# Altium integrated library Resistors.IntLib: 4954 symbols (part 28 of 32)
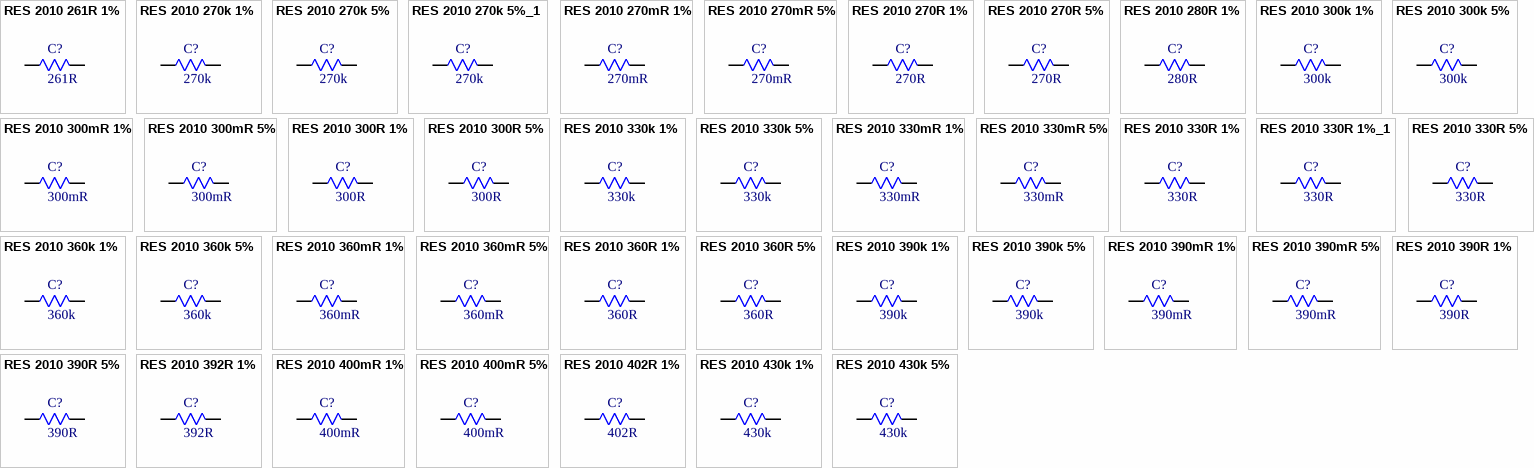
[diagram p150: symbols RES 2010 261R 1% to RES 2010 430k 5%]

## RES 2010 430k 5%
designator C?, comment 430k
430kR 5% 750mW 2010 Thick Film Resistor; Manufacturer: FOJAN; Manufacturer Part Number: FRC2010J434 TS; Voltage Rating: 200V; Supplier: LCSC; Supplier Part Number: C2934030; Resistance: 430k; Tolerance: 5%; Power: 750mW
footprint RES SMD 2010
pins: 1, 2

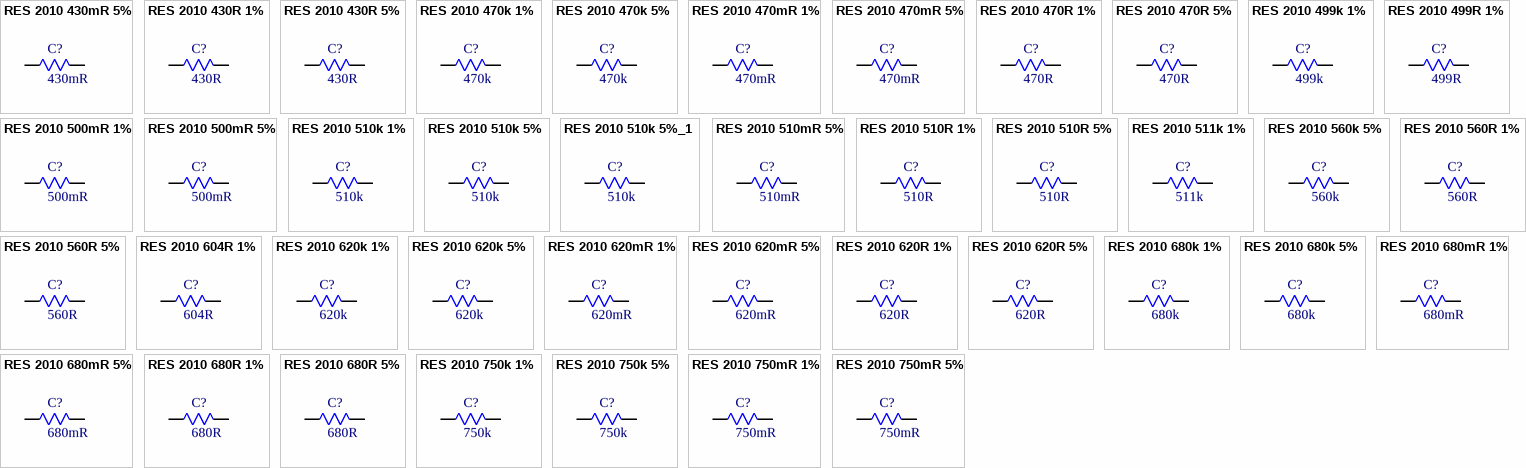
[diagram p108: symbols RES 2010 430mR 5% to RES 2010 750mR 5%]

## RES 2010 430mR 5%
designator C?, comment 430mR
430mR 5% 750mW 2010 Thick Film Resistor; Manufacturer: FOJAN; Manufacturer Part Number: FRL2010JR430TS; Voltage Rating: 500V; Supplier: LCSC; Supplier Part Number: C2934362; Resistance: 430mR; Tolerance: 5%; Power: 750mW
footprint RES SMD 2010
pins: 1, 2

## RES 2010 430R 1%
designator C?, comment 430R
430R 1% 750mW 2010 Thick Film Resistor; Manufacturer: FOJAN; Manufacturer Part Number: FRC2010F4300TS; Voltage Rating: 200V; Supplier: LCSC; Supplier Part Number: C2933988; Resistance: 430R; Tolerance: 1%; Power: 750mW
footprint RES SMD 2010
pins: 1, 2

## RES 2010 430R 5%
designator C?, comment 430R
430R 5% 750mW 2010 Thick Film Resistor; Manufacturer: FOJAN; Manufacturer Part Number: FRC2010J431 TS; Voltage Rating: 200V; Supplier: LCSC; Supplier Part Number: C2960757; Resistance: 430R; Tolerance: 5%; Power: 750mW
footprint RES SMD 2010
pins: 1, 2

## RES 2010 470k 1%
designator C?, comment 470k
470kR 1% 750mW 2010 Thick Film Resistor; Manufacturer: FOJAN; Manufacturer Part Number: FRC2010F4703TS; Voltage Rating: 200V; Supplier: LCSC; Supplier Part Number: C5159758; Resistance: 470k; Tolerance: 1%; Power: 750mW
footprint RES SMD 2010
pins: 1, 2

## RES 2010 470k 5%
designator C?, comment 470k
470kR 5% 750mW 2010 Thick Film Resistor; Manufacturer: FOJAN; Manufacturer Part Number: FRC2010J474 TS; Voltage Rating: 200V; Supplier: LCSC; Supplier Part Number: C2960931; Resistance: 470k; Tolerance: 5%; Power: 750mW
footprint RES SMD 2010
pins: 1, 2

## RES 2010 470mR 1%
designator C?, comment 470mR
470mR 1% 750mW 2010 Thick Film Resistor; Manufacturer: FOJAN; Manufacturer Part Number: FRL2010FR470TS; Voltage Rating: 500V; Supplier: LCSC; Supplier Part Number: C5126267; Resistance: 470mR; Tolerance: 1%; Power: 750mW
footprint RES SMD 2010
pins: 1, 2

## RES 2010 470mR 5%
designator C?, comment 470mR
470mR 5% 750mW 2010 Thick Film Resistor; Manufacturer: FOJAN; Manufacturer Part Number: FRL2010JR470TS; Voltage Rating: 500V; Supplier: LCSC; Supplier Part Number: C2934363; Resistance: 470mR; Tolerance: 5%; Power: 750mW
footprint RES SMD 2010
pins: 1, 2

## RES 2010 470R 1%
designator C?, comment 470R
470R 1% 750mW 2010 Thick Film Resistor; Manufacturer: FOJAN; Manufacturer Part Number: FRC2010F4700TS; Voltage Rating: 200V; Supplier: LCSC; Supplier Part Number: C2933989; Resistance: 470R; Tolerance: 1%; Power: 750mW
footprint RES SMD 2010
pins: 1, 2

## RES 2010 470R 5%
designator C?, comment 470R
470R 5% 750mW 2010 Thick Film Resistor; Manufacturer: FOJAN; Manufacturer Part Number: FRC2010J471 TS; Voltage Rating: 200V; Supplier: LCSC; Supplier Part Number: C2960680; Resistance: 470R; Tolerance: 5%; Power: 750mW
footprint RES SMD 2010
pins: 1, 2

## RES 2010 499k 1%
designator C?, comment 499k
499kR 1% 750mW 2010 Thick Film Resistor; Manufacturer: FOJAN; Manufacturer Part Number: FRC2010F4993TS; Voltage Rating: 200V; Supplier: LCSC; Supplier Part Number: C5713370; Resistance: 499k; Tolerance: 1%; Power: 750mW
footprint RES SMD 2010
pins: 1, 2

## RES 2010 499R 1%
designator C?, comment 499R
499R 1% 750mW 2010 Thick Film Resistor; Manufacturer: FOJAN; Manufacturer Part Number: FRC2010F4990TS; Voltage Rating: 200V; Supplier: LCSC; Supplier Part Number: C3000554; Resistance: 499R; Tolerance: 1%; Power: 750mW
footprint RES SMD 2010
pins: 1, 2

## RES 2010 500mR 1%
designator C?, comment 500mR
500mR 1% 750mW 2010 Thick Film Resistor; Manufacturer: FOJAN; Manufacturer Part Number: FRL2010FR500TS; Voltage Rating: 500V; Supplier: LCSC; Supplier Part Number: C2974126; Resistance: 500mR; Tolerance: 1%; Power: 750mW
footprint RES SMD 2010
pins: 1, 2

## RES 2010 500mR 5%
designator C?, comment 500mR
500mR 5% 750mW 2010 Thick Film Resistor; Manufacturer: FOJAN; Manufacturer Part Number: FRL2010JR500TS; Voltage Rating: 500V; Supplier: LCSC; Supplier Part Number: C3000709; Resistance: 500mR; Tolerance: 5%; Power: 750mW
footprint RES SMD 2010
pins: 1, 2

## RES 2010 510k 1%
designator C?, comment 510k
510kR 1% 750mW 2010 Thick Film Resistor; Manufacturer: FOJAN; Manufacturer Part Number: FRC2010F5103TS; Voltage Rating: 200V; Supplier: LCSC; Supplier Part Number: C3013310; Resistance: 510k; Tolerance: 1%; Power: 750mW
footprint RES SMD 2010
pins: 1, 2

## RES 2010 510k 5%
designator C?, comment 510k
510kR 5% 1W 2010 Thick Film Resistor; Manufacturer: FOJAN; Manufacturer Part Number: FRP2010J514 TS; Voltage Rating: 200V; Supplier: LCSC; Supplier Part Number: C3013380; Resistance: 510k; Tolerance: 5%; Power: 1W
footprint RES SMD 2010
pins: 1, 2

## RES 2010 510k 5%_1
designator C?, comment 510k
510kR 5% 750mW 2010 Thick Film Resistor; Manufacturer: FOJAN; Manufacturer Part Number: FRC2010J514 TS; Voltage Rating: 200V; Supplier: LCSC; Supplier Part Number: C2934034; Resistance: 510k; Tolerance: 5%; Power: 750mW
footprint RES SMD 2010
pins: 1, 2

## RES 2010 510mR 5%
designator C?, comment 510mR
510mR 5% 750mW 2010 Thick Film Resistor; Manufacturer: FOJAN; Manufacturer Part Number: FRL2010JR510TS; Voltage Rating: 500V; Supplier: LCSC; Supplier Part Number: C3000792; Resistance: 510mR; Tolerance: 5%; Power: 750mW
footprint RES SMD 2010
pins: 1, 2

## RES 2010 510R 1%
designator C?, comment 510R
510R 1% 750mW 2010 Thick Film Resistor; Manufacturer: FOJAN; Manufacturer Part Number: FRC2010F5100TS; Voltage Rating: 200V; Supplier: LCSC; Supplier Part Number: C3013309; Resistance: 510R; Tolerance: 1%; Power: 750mW
footprint RES SMD 2010
pins: 1, 2

## RES 2010 510R 5%
designator C?, comment 510R
510R 5% 750mW 2010 Thick Film Resistor; Manufacturer: FOJAN; Manufacturer Part Number: FRC2010J511TS; Voltage Rating: 200V; Supplier: LCSC; Supplier Part Number: C2980182; Resistance: 510R; Tolerance: 5%; Power: 750mW
footprint RES SMD 2010
pins: 1, 2

## RES 2010 511k 1%
designator C?, comment 511k
511kR Thick Film Resistor 1% 2010 Chip Resistor - Surface Mount RoHS; Manufacturer: FOJAN; Manufacturer Part Number: FRC2010F5113TS; Supplier: LCSC; Supplier Part Number: C49010134; Resistance: 511k; Tolerance: 1%
footprint RES SMD 2010
pins: 1, 2

## RES 2010 560k 5%
designator C?, comment 560k
560kR 5% 750mW 2010 Thick Film Resistor; Manufacturer: FOJAN; Manufacturer Part Number: FRC2010J564 TS; Voltage Rating: 200V; Supplier: LCSC; Supplier Part Number: C2934035; Resistance: 560k; Tolerance: 5%; Power: 750mW
footprint RES SMD 2010
pins: 1, 2

## RES 2010 560R 1%
designator C?, comment 560R
560R 1% 750mW 2010 Thick Film Resistor; Manufacturer: FOJAN; Manufacturer Part Number: FRC2010F5600TS; Voltage Rating: 200V; Supplier: LCSC; Supplier Part Number: C42372194; Resistance: 560R; Tolerance: 1%; Power: 750mW
footprint RES SMD 2010
pins: 1, 2

## RES 2010 560R 5%
designator C?, comment 560R
560R 5% 750mW 2010 Thick Film Resistor; Manufacturer: FOJAN; Manufacturer Part Number: FRC2010J561TS; Voltage Rating: 200V; Supplier: LCSC; Supplier Part Number: C3000789; Resistance: 560R; Tolerance: 5%; Power: 750mW
footprint RES SMD 2010
pins: 1, 2

## RES 2010 604R 1%
designator C?, comment 604R
750mW 604R 200V Thick Film Resistor 100ppm/â„ƒ 1% 2010 Chip Resistor - Surface Mount RoHS; Manufacturer: FOJAN; Manufacturer Part Number: FRC2010F6040TS; Supplier: LCSC; Supplier Part Number: C49010122; Resistance: 604R; Tolerance: 1%; Voltage Rating: 200V; Power: 750mW
footprint RES SMD 2010
pins: 1, 2

## RES 2010 620k 1%
designator C?, comment 620k
620kR 1% 750mW 2010 Thick Film Resistor; Manufacturer: FOJAN; Manufacturer Part Number: FRC2010F6203TS; Voltage Rating: 200V; Supplier: LCSC; Supplier Part Number: C2930456; Resistance: 620k; Tolerance: 1%; Power: 750mW
footprint RES SMD 2010
pins: 1, 2

## RES 2010 620k 5%
designator C?, comment 620k
620kR 5% 750mW 2010 Thick Film Resistor; Manufacturer: FOJAN; Manufacturer Part Number: FRC2010J624 TS; Voltage Rating: 200V; Supplier: LCSC; Supplier Part Number: C5126251; Resistance: 620k; Tolerance: 5%; Power: 750mW
footprint RES SMD 2010
pins: 1, 2

## RES 2010 620mR 1%
designator C?, comment 620mR
620mR 1% 750mW 2010 Thick Film Resistor; Manufacturer: FOJAN; Manufacturer Part Number: FRL2010FR620TS; Voltage Rating: 500V; Supplier: LCSC; Supplier Part Number: C5713407; Resistance: 620mR; Tolerance: 1%; Power: 750mW
footprint RES SMD 2010
pins: 1, 2

## RES 2010 620mR 5%
designator C?, comment 620mR
620mR 5% 750mW 2010 Thick Film Resistor; Manufacturer: FOJAN; Manufacturer Part Number: FRL2010JR620TS; Voltage Rating: 500V; Supplier: LCSC; Supplier Part Number: C2960852; Resistance: 620mR; Tolerance: 5%; Power: 750mW
footprint RES SMD 2010
pins: 1, 2

## RES 2010 620R 1%
designator C?, comment 620R
750mW 620R 200V Thick Film Resistor 1% 2010 Chip Resistor - Surface Mount RoHS; Manufacturer: FOJAN; Manufacturer Part Number: FRC2010F6200TS; Supplier: LCSC; Supplier Part Number: C51048353; Resistance: 620R; Tolerance: 1%; Voltage Rating: 200V; Power: 750mW
footprint RES SMD 2010
pins: 1, 2

## RES 2010 620R 5%
designator C?, comment 620R
620R 5% 750mW 2010 Thick Film Resistor; Manufacturer: FOJAN; Manufacturer Part Number: FRC2010J621TS; Voltage Rating: 200V; Supplier: LCSC; Supplier Part Number: C3000621; Resistance: 620R; Tolerance: 5%; Power: 750mW
footprint RES SMD 2010
pins: 1, 2

## RES 2010 680k 1%
designator C?, comment 680k
750mW 680kR 200V Thick Film Resistor 100ppm/â„ƒ 1% 2010 Chip Resistor - Surface Mount RoHS; Manufacturer: FOJAN; Manufacturer Part Number: FRC2010F6803TS; Supplier: LCSC; Supplier Part Number: C22375114; Resistance: 680k; Tolerance: 1%; Voltage Rating: 200V; Power: 750mW
footprint RES SMD 2010
pins: 1, 2

## RES 2010 680k 5%
designator C?, comment 680k
680kR 5% 750mW 2010 Thick Film Resistor; Manufacturer: FOJAN; Manufacturer Part Number: FRC2010J684TS; Voltage Rating: 200V; Supplier: LCSC; Supplier Part Number: C5379856; Resistance: 680k; Tolerance: 5%; Power: 750mW
footprint RES SMD 2010
pins: 1, 2

## RES 2010 680mR 1%
designator C?, comment 680mR
680mR 1% 750mW 2010 Thick Film Resistor; Manufacturer: FOJAN; Manufacturer Part Number: FRL2010FR680TS; Voltage Rating: 500V; Supplier: LCSC; Supplier Part Number: C2934355; Resistance: 680mR; Tolerance: 1%; Power: 750mW
footprint RES SMD 2010
pins: 1, 2

## RES 2010 680mR 5%
designator C?, comment 680mR
680mR 5% 750mW 2010 Thick Film Resistor; Manufacturer: FOJAN; Manufacturer Part Number: FRL2010JR680TS; Voltage Rating: 500V; Supplier: LCSC; Supplier Part Number: C3000628; Resistance: 680mR; Tolerance: 5%; Power: 750mW
footprint RES SMD 2010
pins: 1, 2

## RES 2010 680R 1%
designator C?, comment 680R
680R 1% 750mW 2010 Thick Film Resistor; Manufacturer: FOJAN; Manufacturer Part Number: FRC2010F6800TS; Voltage Rating: 200V; Supplier: LCSC; Supplier Part Number: C2999597; Resistance: 680R; Tolerance: 1%; Power: 750mW
footprint RES SMD 2010
pins: 1, 2

## RES 2010 680R 5%
designator C?, comment 680R
680R 5% 750mW 2010 Thick Film Resistor; Manufacturer: FOJAN; Manufacturer Part Number: FRC2010J681 TS; Voltage Rating: 200V; Supplier: LCSC; Supplier Part Number: C2934037; Resistance: 680R; Tolerance: 5%; Power: 750mW
footprint RES SMD 2010
pins: 1, 2

## RES 2010 750k 1%
designator C?, comment 750k
750kR 750mW 200V Thick Film Resistor 1% 2010 Chip Resistor - Surface Mount RoHS; Manufacturer: FOJAN; Manufacturer Part Number: FRC2010F7503TS; Supplier: LCSC; Supplier Part Number: C51048210; Resistance: 750k; Tolerance: 1%; Voltage Rating: 200V; Power: 750mW
footprint RES SMD 2010
pins: 1, 2

## RES 2010 750k 5%
designator C?, comment 750k
750kR 5% 750mW 2010 Thick Film Resistor; Manufacturer: FOJAN; Manufacturer Part Number: FRC2010J754TS; Voltage Rating: 200V; Supplier: LCSC; Supplier Part Number: C3000656; Resistance: 750k; Tolerance: 5%; Power: 750mW
footprint RES SMD 2010
pins: 1, 2

## RES 2010 750mR 1%
designator C?, comment 750mR
750mR 1% 750mW 2010 Thick Film Resistor; Manufacturer: FOJAN; Manufacturer Part Number: FRL2010FR750TS; Voltage Rating: 500V; Supplier: LCSC; Supplier Part Number: C5126191; Resistance: 750mR; Tolerance: 1%; Power: 750mW
footprint RES SMD 2010
pins: 1, 2

## RES 2010 750mR 5%
designator C?, comment 750mR
750mR 5% 750mW 2010 Thick Film Resistor; Manufacturer: FOJAN; Manufacturer Part Number: FRL2010JR750TS; Voltage Rating: 500V; Supplier: LCSC; Supplier Part Number: C3013368; Resistance: 750mR; Tolerance: 5%; Power: 750mW
footprint RES SMD 2010
pins: 1, 2

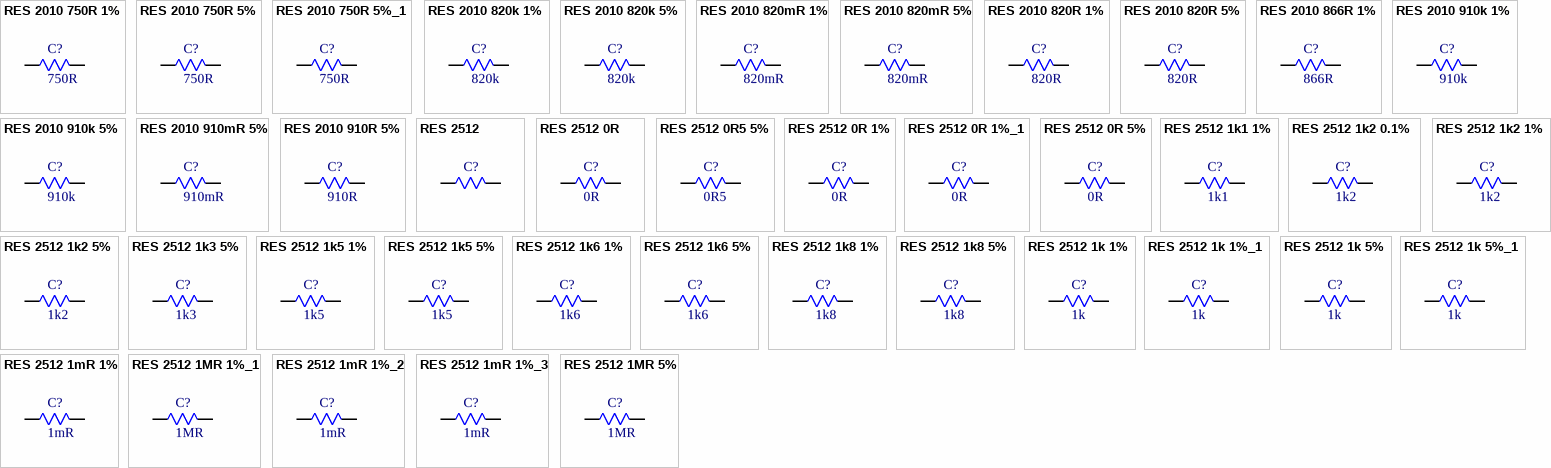
[diagram p109: symbols RES 2010 750R 1% to RES 2512 1MR 5%]

## RES 2010 750R 1%
designator C?, comment 750R
750R 1% 750mW 2010 Thick Film Resistor; Manufacturer: FOJAN; Manufacturer Part Number: FRC2010F7500TS; Voltage Rating: 200V; Supplier: LCSC; Supplier Part Number: C5126119; Resistance: 750R; Tolerance: 1%; Power: 750mW
footprint RES SMD 2010
pins: 1, 2

## RES 2010 750R 5%
designator C?, comment 750R
1W 750R Thick Film Resistor 5% 200ppm/â„ƒ 2010 Chip Resistor - Surface Mount RoHS; Manufacturer: FOJAN; Manufacturer Part Number: FRP2010J751 TS; Supplier: LCSC; Supplier Part Number: C22375108; Resistance: 750R; Tolerance: 5%; Power: 1W
footprint RES SMD 2010
pins: 1, 2

## RES 2010 750R 5%_1
designator C?, comment 750R
750R 5% 750mW 2010 Thick Film Resistor; Manufacturer: FOJAN; Manufacturer Part Number: FRC2010J751TS; Voltage Rating: 200V; Supplier: LCSC; Supplier Part Number: C3000708; Resistance: 750R; Tolerance: 5%; Power: 750mW
footprint RES SMD 2010
pins: 1, 2

## RES 2010 820k 1%
designator C?, comment 820k
820kR 1% 750mW 2010 Thick Film Resistor; Manufacturer: FOJAN; Manufacturer Part Number: FRC2010F8203TS; Voltage Rating: 200V; Supplier: LCSC; Supplier Part Number: C2999619; Resistance: 820k; Tolerance: 1%; Power: 750mW
footprint RES SMD 2010
pins: 1, 2

## RES 2010 820k 5%
designator C?, comment 820k
820kR 5% 750mW 2010 Thick Film Resistor; Manufacturer: FOJAN; Manufacturer Part Number: FRC2010J824TS; Voltage Rating: 200V; Supplier: LCSC; Supplier Part Number: C3000681; Resistance: 820k; Tolerance: 5%; Power: 750mW
footprint RES SMD 2010
pins: 1, 2

## RES 2010 820mR 1%
designator C?, comment 820mR
820mR 1% 750mW 2010 Thick Film Resistor; Manufacturer: FOJAN; Manufacturer Part Number: FRL2010FR820TS; Voltage Rating: 500V; Supplier: LCSC; Supplier Part Number: C2974127; Resistance: 820mR; Tolerance: 1%; Power: 750mW
footprint RES SMD 2010
pins: 1, 2

## RES 2010 820mR 5%
designator C?, comment 820mR
820mR 5% 750mW 2010 Thick Film Resistor; Manufacturer: FOJAN; Manufacturer Part Number: FRL2010JR820TS; Voltage Rating: 500V; Supplier: LCSC; Supplier Part Number: C2930457; Resistance: 820mR; Tolerance: 5%; Power: 750mW
footprint RES SMD 2010
pins: 1, 2

## RES 2010 820R 1%
designator C?, comment 820R
820R 750mW 200V Thick Film Resistor 100ppm/â„ƒ 1% 2010 Chip Resistor - Surface Mount RoHS; Manufacturer: FOJAN; Manufacturer Part Number: FRC2010F8200TS; Supplier: LCSC; Supplier Part Number: C48533694; Resistance: 820R; Tolerance: 1%; Voltage Rating: 200V; Power: 750mW
footprint RES SMD 2010
pins: 1, 2

## RES 2010 820R 5%
designator C?, comment 820R
820R 5% 750mW 2010 Thick Film Resistor; Manufacturer: FOJAN; Manufacturer Part Number: FRC2010J821 TS; Voltage Rating: 200V; Supplier: LCSC; Supplier Part Number: C2960912; Resistance: 820R; Tolerance: 5%; Power: 750mW
footprint RES SMD 2010
pins: 1, 2

## RES 2010 866R 1%
designator C?, comment 866R
866R 750mW 200V Thick Film Resistor 1% 2010 Chip Resistor - Surface Mount RoHS; Manufacturer: FOJAN; Manufacturer Part Number: FRC2010F8660TS; Supplier: LCSC; Supplier Part Number: C51048284; Resistance: 866R; Tolerance: 1%; Voltage Rating: 200V; Power: 750mW
footprint RES SMD 2010
pins: 1, 2

## RES 2010 910k 1%
designator C?, comment 910k
910kR 1% 750mW 2010 Thick Film Resistor; Manufacturer: FOJAN; Manufacturer Part Number: FRC2010F9103TS; Voltage Rating: 200V; Supplier: LCSC; Supplier Part Number: C5159759; Resistance: 910k; Tolerance: 1%; Power: 750mW
footprint RES SMD 2010
pins: 1, 2

## RES 2010 910k 5%
designator C?, comment 910k
910kR 5% 750mW 2010 Thick Film Resistor; Manufacturer: FOJAN; Manufacturer Part Number: FRC2010J914 TS; Voltage Rating: 200V; Supplier: LCSC; Supplier Part Number: C5713374; Resistance: 910k; Tolerance: 5%; Power: 750mW
footprint RES SMD 2010
pins: 1, 2

## RES 2010 910mR 5%
designator C?, comment 910mR
910mR 5% 750mW 2010 Thick Film Resistor; Manufacturer: FOJAN; Manufacturer Part Number: FRL2010JR910TS; Voltage Rating: 500V; Supplier: LCSC; Supplier Part Number: C3013369; Resistance: 910mR; Tolerance: 5%; Power: 750mW
footprint RES SMD 2010
pins: 1, 2

## RES 2010 910R 5%
designator C?, comment 910R
910R 5% 750mW 2010 Thick Film Resistor; Manufacturer: FOJAN; Manufacturer Part Number: FRC2010J911 TS; Voltage Rating: 200V; Supplier: LCSC; Supplier Part Number: C2960932; Resistance: 910R; Tolerance: 5%; Power: 750mW
footprint RES SMD 2010
pins: 1, 2

## RES 2512
designator C?
2512 Chip Resistor - Surface Mount RoHS; Manufacturer: FOJAN; Manufacturer Part Number: FRM252WFR022TM; Supplier: LCSC; Supplier Part Number: C53064366
footprint RES SMD 2512
pins: 1, 2

## RES 2512 0R
designator C?, comment 0R
0R 2W Thick Film Resistor 200ppm/â„ƒ 2512 Chip Resistor - Surface Mount RoHS; Manufacturer: FOJAN; Manufacturer Part Number: FRP2512P000 TS; Supplier: LCSC; Supplier Part Number: C7468130; Resistance: 0R; Power: 2W
footprint RES SMD 2512
pins: 1, 2

## RES 2512 0R5 5%
designator C?, comment 0R5
0.5mR 3W Current Sense Resistor 50ppm/â„ƒ 5% 2512 Chip Resistor - Surface Mount RoHS; Manufacturer: FOJAN; Manufacturer Part Number: FPM253WJR0005TML; Supplier: LCSC; Supplier Part Number: C7419994; Resistance: 0R5; Tolerance: 5%; Power: 3W
footprint RES SMD 2512
pins: 1, 2

## RES 2512 0R 1%
designator C?, comment 0R
2W 0R 200V Thick Film Resistor 200ppm/â„ƒ 1% 2512 Chip Resistor - Surface Mount RoHS; Manufacturer: FOJAN; Manufacturer Part Number: FRP2512F0000TS; Supplier: LCSC; Supplier Part Number: C5204052; Resistance: 0R; Tolerance: 1%; Voltage Rating: 200V; Power: 2W
footprint RES SMD 2512
pins: 1, 2

## RES 2512 0R 1%_1
designator C?, comment 0R
1W 0R 200V Thick Film Resistor 1% 2512 Chip Resistor - Surface Mount RoHS; Manufacturer: FOJAN; Manufacturer Part Number: FRC2512F0000TS; Supplier: LCSC; Supplier Part Number: C2934043; Resistance: 0R; Tolerance: 1%; Voltage Rating: 200V; Power: 1W
footprint RES SMD 2512
pins: 1, 2

## RES 2512 0R 5%
designator C?, comment 0R
1W 0R 200V Thick Film Resistor 5% 2512 Chip Resistor - Surface Mount RoHS; Manufacturer: FOJAN; Manufacturer Part Number: FRC2512P000 TS; Supplier: LCSC; Supplier Part Number: C2907567; Resistance: 0R; Tolerance: 5%; Voltage Rating: 200V; Power: 1W
footprint RES SMD 2512
pins: 1, 2

## RES 2512 1k1 1%
designator C?, comment 1k1
1.1kR 1% 1W 2512 Thick Film Resistor; Manufacturer: FOJAN; Manufacturer Part Number: FRC2512F1101TS; Voltage Rating: 200V; Supplier: LCSC; Supplier Part Number: C2974106; Resistance: 1k1; Tolerance: 1%; Power: 1W
footprint RES SMD 2512
pins: 1, 2

## RES 2512 1k2 0.1%
designator C?, comment 1k2
1W 1.2kR 200V Thick Film Resistor 100ppm/â„ƒ 0.1% 2512 Chip Resistor - Surface Mount RoHS; Manufacturer: FOJAN; Manufacturer Part Number: FRH2512B1201TS; Supplier: LCSC; Supplier Part Number: C49196923; Resistance: 1k2; Tolerance: 0.1%; Voltage Rating: 200V; Power: 1W
footprint RES SMD 2512
pins: 1, 2

## RES 2512 1k2 1%
designator C?, comment 1k2
1.2kR 1% 1W 2512 Thick Film Resistor; Manufacturer: FOJAN; Manufacturer Part Number: FRC2512F1201TS; Voltage Rating: 200V; Supplier: LCSC; Supplier Part Number: C2999600; Resistance: 1k2; Tolerance: 1%; Power: 1W
footprint RES SMD 2512
pins: 1, 2

## RES 2512 1k2 5%
designator C?, comment 1k2
1.2kR 5% 1W 2512 Thick Film Resistor; Manufacturer: FOJAN; Manufacturer Part Number: FRC2512J122 TS; Voltage Rating: 200V; Supplier: LCSC; Supplier Part Number: C2934085; Resistance: 1k2; Tolerance: 5%; Power: 1W
footprint RES SMD 2512
pins: 1, 2

## RES 2512 1k3 5%
designator C?, comment 1k3
1.3kR 5% 1W 2512 Thick Film Resistor; Manufacturer: FOJAN; Manufacturer Part Number: FRC2512J132 TS; Voltage Rating: 200V; Supplier: LCSC; Supplier Part Number: C2934089; Resistance: 1k3; Tolerance: 5%; Power: 1W
footprint RES SMD 2512
pins: 1, 2

## RES 2512 1k5 1%
designator C?, comment 1k5
1.5kR 1% 1W 2512 Thick Film Resistor; Manufacturer: FOJAN; Manufacturer Part Number: FRC2512F1501TS; Voltage Rating: 200V; Supplier: LCSC; Supplier Part Number: C5153994; Resistance: 1k5; Tolerance: 1%; Power: 1W
footprint RES SMD 2512
pins: 1, 2

## RES 2512 1k5 5%
designator C?, comment 1k5
1.5kR 5% 1W 2512 Thick Film Resistor; Manufacturer: FOJAN; Manufacturer Part Number: FRC2512J152 TS; Voltage Rating: 200V; Supplier: LCSC; Supplier Part Number: C5121570; Resistance: 1k5; Tolerance: 5%; Power: 1W
footprint RES SMD 2512
pins: 1, 2

## RES 2512 1k6 1%
designator C?, comment 1k6
1.6kR 1% 1W 2512 Thick Film Resistor; Manufacturer: FOJAN; Manufacturer Part Number: FRC2512F1601TS; Voltage Rating: 200V; Supplier: LCSC; Supplier Part Number: C5126121; Resistance: 1k6; Tolerance: 1%; Power: 1W
footprint RES SMD 2512
pins: 1, 2

## RES 2512 1k6 5%
designator C?, comment 1k6
1.6kR 5% 1W 2512 Thick Film Resistor; Manufacturer: FOJAN; Manufacturer Part Number: FRC2512J162 TS; Voltage Rating: 200V; Supplier: LCSC; Supplier Part Number: C2934091; Resistance: 1k6; Tolerance: 5%; Power: 1W
footprint RES SMD 2512
pins: 1, 2

## RES 2512 1k8 1%
designator C?, comment 1k8
1.82kR 1W 200V Thick Film Resistor 100ppm/â„ƒ 1% 2512 Chip Resistor - Surface Mount RoHS; Manufacturer: FOJAN; Manufacturer Part Number: FRC2512F1821TS; Supplier: LCSC; Supplier Part Number: C48533760; Resistance: 1k8; Tolerance: 1%; Voltage Rating: 200V; Power: 1W
footprint RES SMD 2512
pins: 1, 2

## RES 2512 1k8 5%
designator C?, comment 1k8
1.8kR 5% 1W 2512 Thick Film Resistor; Manufacturer: FOJAN; Manufacturer Part Number: FRC2512J182 TS; Voltage Rating: 200V; Supplier: LCSC; Supplier Part Number: C2934095; Resistance: 1k8; Tolerance: 5%; Power: 1W
footprint RES SMD 2512
pins: 1, 2

## RES 2512 1k 1%
designator C?, comment 1k
1kR 1% 1W 2512 Thick Film Resistor; Manufacturer: FOJAN; Manufacturer Part Number: FRC2512F1001TS; Voltage Rating: 200V; Supplier: LCSC; Supplier Part Number: C2960683; Resistance: 1k; Tolerance: 1%; Power: 1W
footprint RES SMD 2512
pins: 1, 2

## RES 2512 1k 1%_1
designator C?, comment 1k
1kR 2W 200V Thick Film Resistor 1% 2512 Chip Resistor - Surface Mount RoHS; Manufacturer: FOJAN; Manufacturer Part Number: FRP2512F1001TS; Supplier: LCSC; Supplier Part Number: C52175204; Resistance: 1k; Tolerance: 1%; Voltage Rating: 200V; Power: 2W
footprint RES SMD 2512
pins: 1, 2

## RES 2512 1k 5%
designator C?, comment 1k
1kR 5% 1W 2512 Thick Film Resistor; Manufacturer: FOJAN; Manufacturer Part Number: FRC2512J102 TS; Voltage Rating: 200V; Supplier: LCSC; Supplier Part Number: C2960674; Resistance: 1k; Tolerance: 5%; Power: 1W
footprint RES SMD 2512
pins: 1, 2

## RES 2512 1k 5%_1
designator C?, comment 1k
1W 1kR Thick Film Resistor 100ppm/â„ƒ 5% 2512 Chip Resistor - Surface Mount RoHS; Manufacturer: FOJAN; Manufacturer Part Number: FRS2512J102 TS; Supplier: LCSC; Supplier Part Number: C5713476; Resistance: 1k; Tolerance: 5%; Power: 1W
footprint RES SMD 2512
pins: 1, 2

## RES 2512 1mR 1%
designator C?, comment 1mR
1mR 2W Current Sense Resistor 50ppm/â„ƒ 1% 2512 Chip Resistor - Surface Mount RoHS; Manufacturer: FOJAN; Manufacturer Part Number: FRM252WFR001TN; Supplier: LCSC; Supplier Part Number: C7467244; Resistance: 1mR; Tolerance: 1%; Power: 2W
footprint RES SMD 2512
pins: 1, 2

## RES 2512 1MR 1%_1
designator C?, comment 1MR
1MR 1% 1W 2512 Thick Film Resistor; Manufacturer: FOJAN; Manufacturer Part Number: FRC2512F1004TS; Voltage Rating: 200V; Supplier: LCSC; Supplier Part Number: C3000673; Resistance: 1MR; Tolerance: 1%; Power: 1W
footprint RES SMD 2512
pins: 1, 2

## RES 2512 1mR 1%_2
designator C?, comment 1mR
1mR 3W Current Sense Resistor 50ppm/â„ƒ 1% 2512 Chip Resistor - Surface Mount RoHS; Manufacturer: FOJAN; Manufacturer Part Number: FPM253WFR001TML; Supplier: LCSC; Supplier Part Number: C7420016; Resistance: 1mR; Tolerance: 1%; Power: 3W
footprint RES SMD 2512
pins: 1, 2

## RES 2512 1mR 1%_3
designator C?, comment 1mR
1mR 2W 50ppm/â„ƒ 1% 2512 Chip Resistor - Surface Mount RoHS; Manufacturer: FOJAN; Manufacturer Part Number: FRM252WFR001TML; Supplier: LCSC; Supplier Part Number: C48533613; Resistance: 1mR; Tolerance: 1%; Power: 2W
footprint RES SMD 2512
pins: 1, 2

## RES 2512 1MR 5%
designator C?, comment 1MR
1MR 5% 1W 2512 Thick Film Resistor; Manufacturer: FOJAN; Manufacturer Part Number: FRC2512J105 TS; Voltage Rating: 200V; Supplier: LCSC; Supplier Part Number: C2934080; Resistance: 1MR; Tolerance: 5%; Power: 1W
footprint RES SMD 2512
pins: 1, 2

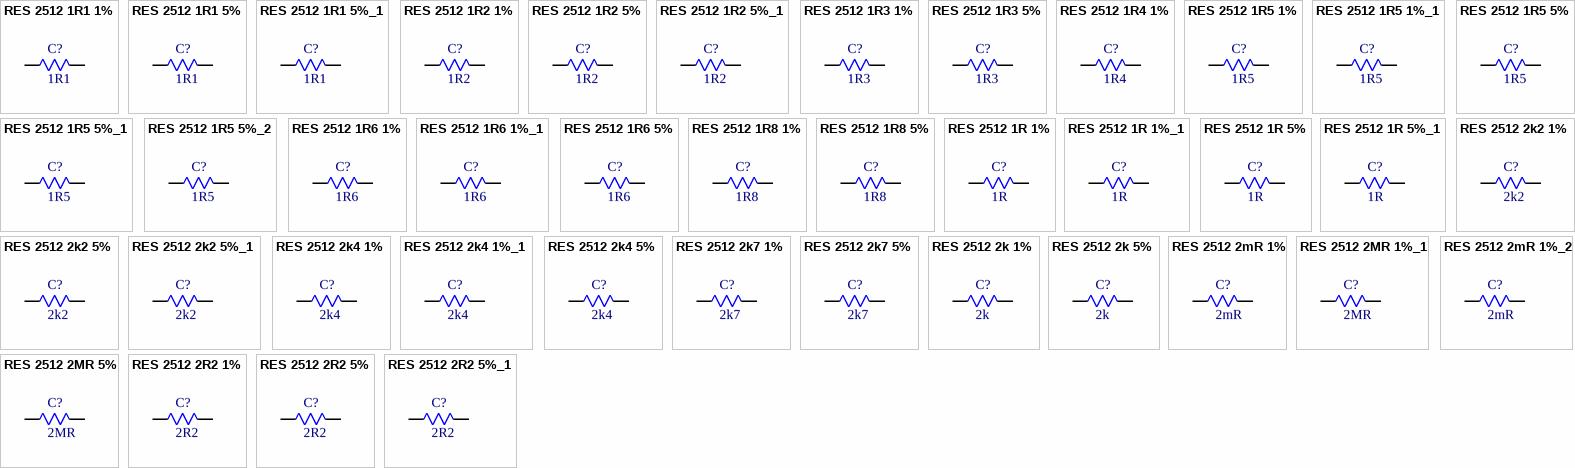
[diagram p110: symbols RES 2512 1R1 1% to RES 2512 2R2 5%_1]

## RES 2512 1R1 1%
designator C?, comment 1R1
1.1R 1W 200V Thick Film Resistor 1% 200ppm/â„ƒ 2512 Chip Resistor - Surface Mount RoHS; Manufacturer: FOJAN; Manufacturer Part Number: FRC2512F1R10TS; Supplier: LCSC; Supplier Part Number: C2934053; Resistance: 1R1; Tolerance: 1%; Voltage Rating: 200V; Power: 1W
footprint RES SMD 2512
pins: 1, 2

## RES 2512 1R1 5%
designator C?, comment 1R1
1W 1.1MR 200V Thick Film Resistor 5% 2512 Chip Resistor - Surface Mount RoHS; Manufacturer: FOJAN; Manufacturer Part Number: FRC2512J115 TS; Supplier: LCSC; Supplier Part Number: C52033522; Resistance: 1R1; Tolerance: 5%; Voltage Rating: 200V; Power: 1W
footprint RES SMD 2512
pins: 1, 2

## RES 2512 1R1 5%_1
designator C?, comment 1R1
1.1R 1W 200V Thick Film Resistor 200ppm/â„ƒ 5% 2512 Chip Resistor - Surface Mount RoHS; Manufacturer: FOJAN; Manufacturer Part Number: FRC2512J1R1TS; Supplier: LCSC; Supplier Part Number: C5379854; Resistance: 1R1; Tolerance: 5%; Voltage Rating: 200V; Power: 1W
footprint RES SMD 2512
pins: 1, 2

## RES 2512 1R2 1%
designator C?, comment 1R2
1W 1.2R 200V Thick Film Resistor 1% 200ppm/â„ƒ 2512 Chip Resistor - Surface Mount RoHS; Manufacturer: FOJAN; Manufacturer Part Number: FRC2512F1R20TS; Supplier: LCSC; Supplier Part Number: C2960682; Resistance: 1R2; Tolerance: 1%; Voltage Rating: 200V; Power: 1W
footprint RES SMD 2512
pins: 1, 2

## RES 2512 1R2 5%
designator C?, comment 1R2
1W 1.2R 200V Thick Film Resistor 200ppm/â„ƒ 5% 2512 Chip Resistor - Surface Mount RoHS; Manufacturer: FOJAN; Manufacturer Part Number: FRC2512J1R2 TS; Supplier: LCSC; Supplier Part Number: C3013329; Resistance: 1R2; Tolerance: 5%; Voltage Rating: 200V; Power: 1W
footprint RES SMD 2512
pins: 1, 2

## RES 2512 1R2 5%_1
designator C?, comment 1R2
1W 1.2MR 200V Thick Film Resistor 5% 100ppm/â„ƒ 2512 Chip Resistor - Surface Mount RoHS; Manufacturer: FOJAN; Manufacturer Part Number: FRC2512J125 TS; Supplier: LCSC; Supplier Part Number: C7467374; Resistance: 1R2; Tolerance: 5%; Voltage Rating: 200V; Power: 1W
footprint RES SMD 2512
pins: 1, 2

## RES 2512 1R3 1%
designator C?, comment 1R3
1W 1.3R 200V Thick Film Resistor 1% 200ppm/â„ƒ 2512 Chip Resistor - Surface Mount RoHS; Manufacturer: FOJAN; Manufacturer Part Number: FRC2512F1R30TS; Supplier: LCSC; Supplier Part Number: C2960753; Resistance: 1R3; Tolerance: 1%; Voltage Rating: 200V; Power: 1W
footprint RES SMD 2512
pins: 1, 2

## RES 2512 1R3 5%
designator C?, comment 1R3
1W 1.3R 200V Thick Film Resistor 200ppm/â„ƒ 5% 2512 Chip Resistor - Surface Mount RoHS; Manufacturer: FOJAN; Manufacturer Part Number: FRC2512J1R3 TS; Supplier: LCSC; Supplier Part Number: C5357136; Resistance: 1R3; Tolerance: 5%; Voltage Rating: 200V; Power: 1W
footprint RES SMD 2512
pins: 1, 2

## RES 2512 1R4 1%
designator C?, comment 1R4
1W 1.4R 200V Thick Film Resistor 200ppm/â„ƒ 1% 2512 Chip Resistor - Surface Mount RoHS; Manufacturer: FOJAN; Manufacturer Part Number: FRC2512F1R40TS; Supplier: LCSC; Supplier Part Number: C5126149; Resistance: 1R4; Tolerance: 1%; Voltage Rating: 200V; Power: 1W
footprint RES SMD 2512
pins: 1, 2

## RES 2512 1R5 1%
designator C?, comment 1R5
1.5R 1W 200V Thick Film Resistor 1% 200ppm/â„ƒ 2512 Chip Resistor - Surface Mount RoHS; Manufacturer: FOJAN; Manufacturer Part Number: FRC2512F1R50TS; Supplier: LCSC; Supplier Part Number: C2934054; Resistance: 1R5; Tolerance: 1%; Voltage Rating: 200V; Power: 1W
footprint RES SMD 2512
pins: 1, 2

## RES 2512 1R5 1%_1
designator C?, comment 1R5
1.5mR 1% 3W; Manufacturer: FOJAN; Manufacturer Part Number: FPM253WFR0015TML; Supplier: LCSC; Supplier Part Number: C46635912; Resistance: 1R5; Tolerance: 1%; Power: 3W
footprint RES SMD 2512
pins: 1, 2

## RES 2512 1R5 5%
designator C?, comment 1R5
1.5MR 5% 1W 2512 Thick Film Resistor; Manufacturer: FOJAN; Manufacturer Part Number: FRC2512J155 TS; Voltage Rating: 200V; Supplier: LCSC; Supplier Part Number: C3013328; Resistance: 1R5; Tolerance: 5%; Power: 1W
footprint RES SMD 2512
pins: 1, 2

## RES 2512 1R5 5%_1
designator C?, comment 1R5
1.5R 2W Thick Film Resistor 200ppm/â„ƒ 5% 2512 Chip Resistor - Surface Mount RoHS; Manufacturer: FOJAN; Manufacturer Part Number: FPS2512J1R5 TS; Supplier: LCSC; Supplier Part Number: C7467931; Resistance: 1R5; Tolerance: 5%; Power: 2W
footprint RES SMD 2512
pins: 1, 2

## RES 2512 1R5 5%_2
designator C?, comment 1R5
1W 1.5R 200V Thick Film Resistor 200ppm/â„ƒ 5% 2512 Chip Resistor - Surface Mount RoHS; Manufacturer: FOJAN; Manufacturer Part Number: FRC2512J1R5 TS; Supplier: LCSC; Supplier Part Number: C3013330; Resistance: 1R5; Tolerance: 5%; Voltage Rating: 200V; Power: 1W
footprint RES SMD 2512
pins: 1, 2

## RES 2512 1R6 1%
designator C?, comment 1R6
1.6R 1W 200V Thick Film Resistor 1% 200ppm/â„ƒ 2512 Chip Resistor - Surface Mount RoHS; Manufacturer: FOJAN; Manufacturer Part Number: FRC2512F1R60TS; Supplier: LCSC; Supplier Part Number: C2934055; Resistance: 1R6; Tolerance: 1%; Voltage Rating: 200V; Power: 1W
footprint RES SMD 2512
pins: 1, 2

## RES 2512 1R6 1%_1
designator C?, comment 1R6
1W 1.65R 200V Thick Film Resistor 1% 200ppm/â„ƒ 2512 Chip Resistor - Surface Mount RoHS; Manufacturer: FOJAN; Manufacturer Part Number: FRC2512F1R65TS; Supplier: LCSC; Supplier Part Number: C48533747; Resistance: 1R6; Tolerance: 1%; Voltage Rating: 200V; Power: 1W
footprint RES SMD 2512
pins: 1, 2

## RES 2512 1R6 5%
designator C?, comment 1R6
1.6R 1W 200V Thick Film Resistor 5% 200ppm/â„ƒ 2512 Chip Resistor - Surface Mount RoHS; Manufacturer: FOJAN; Manufacturer Part Number: FRC2512J1R6 TS; Supplier: LCSC; Supplier Part Number: C2960933; Resistance: 1R6; Tolerance: 5%; Voltage Rating: 200V; Power: 1W
footprint RES SMD 2512
pins: 1, 2

## RES 2512 1R8 1%
designator C?, comment 1R8
1W 1.8R 200V Thick Film Resistor 1% 200ppm/â„ƒ 2512 Chip Resistor - Surface Mount RoHS; Manufacturer: FOJAN; Manufacturer Part Number: FRC2512F1R80TS; Supplier: LCSC; Supplier Part Number: C2960771; Resistance: 1R8; Tolerance: 1%; Voltage Rating: 200V; Power: 1W
footprint RES SMD 2512
pins: 1, 2

## RES 2512 1R8 5%
designator C?, comment 1R8
1W 1.8R 200V Thick Film Resistor 5% 200ppm/â„ƒ 2512 Chip Resistor - Surface Mount RoHS; Manufacturer: FOJAN; Manufacturer Part Number: FRC2512J1R8TS; Supplier: LCSC; Supplier Part Number: C2930458; Resistance: 1R8; Tolerance: 5%; Voltage Rating: 200V; Power: 1W
footprint RES SMD 2512
pins: 1, 2

## RES 2512 1R 1%
designator C?, comment 1R
1R 2W 200V Thick Film Resistor 1% 200ppm/â„ƒ 2512 Chip Resistor - Surface Mount RoHS; Manufacturer: FOJAN; Manufacturer Part Number: FRP2512F1R00TS; Supplier: LCSC; Supplier Part Number: C5713424; Resistance: 1R; Tolerance: 1%; Voltage Rating: 200V; Power: 2W
footprint RES SMD 2512
pins: 1, 2

## RES 2512 1R 1%_1
designator C?, comment 1R
1W 1R 200V Thick Film Resistor 200ppm/â„ƒ 1% 2512 Chip Resistor - Surface Mount RoHS; Manufacturer: FOJAN; Manufacturer Part Number: FRC2512F1R00TS; Supplier: LCSC; Supplier Part Number: C2999526; Resistance: 1R; Tolerance: 1%; Voltage Rating: 200V; Power: 1W
footprint RES SMD 2512
pins: 1, 2

## RES 2512 1R 5%
designator C?, comment 1R
1W 1R 200V Thick Film Resistor 200ppm/â„ƒ 5% 2512 Chip Resistor - Surface Mount RoHS; Manufacturer: FOJAN; Manufacturer Part Number: FRC2512J1R0TS; Supplier: LCSC; Supplier Part Number: C3000711; Resistance: 1R; Tolerance: 5%; Voltage Rating: 200V; Power: 1W
footprint RES SMD 2512
pins: 1, 2

## RES 2512 1R 5%_1
designator C?, comment 1R
1R 2W 200V Thick Film Resistor 5% 200ppm/â„ƒ 2512 Chip Resistor - Surface Mount RoHS; Manufacturer: FOJAN; Manufacturer Part Number: FRP2512J1R0 TS; Supplier: LCSC; Supplier Part Number: C5713427; Resistance: 1R; Tolerance: 5%; Voltage Rating: 200V; Power: 2W
footprint RES SMD 2512
pins: 1, 2

## RES 2512 2k2 1%
designator C?, comment 2k2
2.2kR 1% 1W 2512 Thick Film Resistor; Manufacturer: FOJAN; Manufacturer Part Number: FRC2512F2201TS; Voltage Rating: 200V; Supplier: LCSC; Supplier Part Number: C2999626; Resistance: 2k2; Tolerance: 1%; Power: 1W
footprint RES SMD 2512
pins: 1, 2

## RES 2512 2k2 5%
designator C?, comment 2k2
2.2kR 5% 1W 2512 Thick Film Resistor; Manufacturer: FOJAN; Manufacturer Part Number: FRC2512J222 TS; Voltage Rating: 200V; Supplier: LCSC; Supplier Part Number: C2934099; Resistance: 2k2; Tolerance: 5%; Power: 1W
footprint RES SMD 2512
pins: 1, 2

## RES 2512 2k2 5%_1
designator C?, comment 2k2
1W 2.2kR Thick Film Resistor 100ppm/â„ƒ 5% 2512 Chip Resistor - Surface Mount RoHS; Manufacturer: FOJAN; Manufacturer Part Number: FRS2512J222 TS; Supplier: LCSC; Supplier Part Number: C5713477; Resistance: 2k2; Tolerance: 5%; Power: 1W
footprint RES SMD 2512
pins: 1, 2

## RES 2512 2k4 1%
designator C?, comment 2k4
1W 2.49kR 200V Thick Film Resistor 1% 2512 Chip Resistor - Surface Mount RoHS; Manufacturer: FOJAN; Manufacturer Part Number: FRC2512F2491TS; Supplier: LCSC; Supplier Part Number: C51048330; Resistance: 2k4; Tolerance: 1%; Voltage Rating: 200V; Power: 1W
footprint RES SMD 2512
pins: 1, 2

## RES 2512 2k4 1%_1
designator C?, comment 2k4
2.4kR 1% 1W 2512 Thick Film Resistor; Manufacturer: FOJAN; Manufacturer Part Number: FRC2512F2401TS; Voltage Rating: 200V; Supplier: LCSC; Supplier Part Number: C5126147; Resistance: 2k4; Tolerance: 1%; Power: 1W
footprint RES SMD 2512
pins: 1, 2

## RES 2512 2k4 5%
designator C?, comment 2k4
2.4kR 5% 1W 2512 Thick Film Resistor; Manufacturer: FOJAN; Manufacturer Part Number: FRC2512J242 TS; Voltage Rating: 200V; Supplier: LCSC; Supplier Part Number: C2934102; Resistance: 2k4; Tolerance: 5%; Power: 1W
footprint RES SMD 2512
pins: 1, 2

## RES 2512 2k7 1%
designator C?, comment 2k7
2.7kR 1% 1W 2512 Thick Film Resistor; Manufacturer: FOJAN; Manufacturer Part Number: FRC2512F2701TS; Voltage Rating: 200V; Supplier: LCSC; Supplier Part Number: C2934063; Resistance: 2k7; Tolerance: 1%; Power: 1W
footprint RES SMD 2512
pins: 1, 2

## RES 2512 2k7 5%
designator C?, comment 2k7
2.7kR 5% 1W 2512 Thick Film Resistor; Manufacturer: FOJAN; Manufacturer Part Number: FRC2512J272 TS; Voltage Rating: 200V; Supplier: LCSC; Supplier Part Number: C2934105; Resistance: 2k7; Tolerance: 5%; Power: 1W
footprint RES SMD 2512
pins: 1, 2

## RES 2512 2k 1%
designator C?, comment 2k
2kR 1% 1W 2512 Thick Film Resistor; Manufacturer: FOJAN; Manufacturer Part Number: FRC2512F2001TS; Voltage Rating: 200V; Supplier: LCSC; Supplier Part Number: C2934057; Resistance: 2k; Tolerance: 1%; Power: 1W
footprint RES SMD 2512
pins: 1, 2

## RES 2512 2k 5%
designator C?, comment 2k
2kR 5% 1W 2512 Thick Film Resistor; Manufacturer: FOJAN; Manufacturer Part Number: FRC2512J202 TS; Voltage Rating: 200V; Supplier: LCSC; Supplier Part Number: C2907579; Resistance: 2k; Tolerance: 5%; Power: 1W
footprint RES SMD 2512
pins: 1, 2

## RES 2512 2mR 1%
designator C?, comment 2mR
2W 2mR Current Sense Resistor 50ppm/â„ƒ 1% 2512 Chip Resistor - Surface Mount RoHS; Manufacturer: FOJAN; Manufacturer Part Number: FRM252WFR002TN; Supplier: LCSC; Supplier Part Number: C7467245; Resistance: 2mR; Tolerance: 1%; Power: 2W
footprint RES SMD 2512
pins: 1, 2

## RES 2512 2MR 1%_1
designator C?, comment 2MR
2MR 1% 1W 2512 Thick Film Resistor; Manufacturer: FOJAN; Manufacturer Part Number: FRC2512F2004TS; Voltage Rating: 200V; Supplier: LCSC; Supplier Part Number: C5126148; Resistance: 2MR; Tolerance: 1%; Power: 1W
footprint RES SMD 2512
pins: 1, 2

## RES 2512 2mR 1%_2
designator C?, comment 2mR
3W 2mR Current Sense Resistor 50ppm/â„ƒ 1% 2512 Chip Resistor - Surface Mount RoHS; Manufacturer: FOJAN; Manufacturer Part Number: FPM253WFR002TML; Supplier: LCSC; Supplier Part Number: C7420017; Resistance: 2mR; Tolerance: 1%; Power: 3W
footprint RES SMD 2512
pins: 1, 2

## RES 2512 2MR 5%
designator C?, comment 2MR
2MR 5% 1W 2512 Thick Film Resistor; Manufacturer: FOJAN; Manufacturer Part Number: FRC2512J205 TS; Voltage Rating: 200V; Supplier: LCSC; Supplier Part Number: C2934098; Resistance: 2MR; Tolerance: 5%; Power: 1W
footprint RES SMD 2512
pins: 1, 2

## RES 2512 2R2 1%
designator C?, comment 2R2
1W 2.2R 200V Thick Film Resistor 1% 200ppm/â„ƒ 2512 Chip Resistor - Surface Mount RoHS; Manufacturer: FOJAN; Manufacturer Part Number: FRC2512F2R20TS; Supplier: LCSC; Supplier Part Number: C2934065; Resistance: 2R2; Tolerance: 1%; Voltage Rating: 200V; Power: 1W
footprint RES SMD 2512
pins: 1, 2

## RES 2512 2R2 5%
designator C?, comment 2R2
1W 2.2MR 200V Thick Film Resistor 5% 100ppm/â„ƒ 2512 Chip Resistor - Surface Mount RoHS; Manufacturer: FOJAN; Manufacturer Part Number: FRC2512J225 TS; Supplier: LCSC; Supplier Part Number: C7467396; Resistance: 2R2; Tolerance: 5%; Voltage Rating: 200V; Power: 1W
footprint RES SMD 2512
pins: 1, 2

## RES 2512 2R2 5%_1
designator C?, comment 2R2
1W 2.2R 200V Thick Film Resistor 5% 200ppm/â„ƒ 2512 Chip Resistor - Surface Mount RoHS; Manufacturer: FOJAN; Manufacturer Part Number: FRC2512J2R2 TS; Supplier: LCSC; Supplier Part Number: C2907574; Resistance: 2R2; Tolerance: 5%; Voltage Rating: 200V; Power: 1W
footprint RES SMD 2512
pins: 1, 2

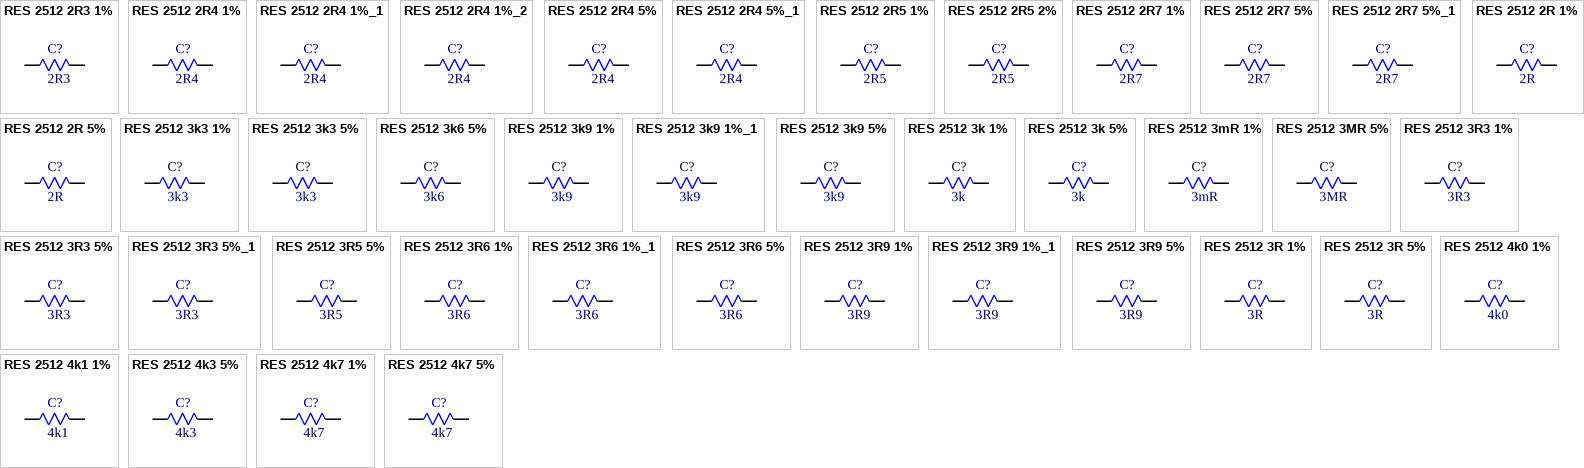
[diagram p111: symbols RES 2512 2R3 1% to RES 2512 4k7 5%]

## RES 2512 2R3 1%
designator C?, comment 2R3
1W 2.37R 200V Thick Film Resistor 1% 200ppm/â„ƒ 2512 Chip Resistor - Surface Mount RoHS; Manufacturer: FOJAN; Manufacturer Part Number: FRC2512F2R37TS; Supplier: LCSC; Supplier Part Number: C48533774; Resistance: 2R3; Tolerance: 1%; Voltage Rating: 200V; Power: 1W
footprint RES SMD 2512
pins: 1, 2

## RES 2512 2R4 1%
designator C?, comment 2R4
2W 2.4R 200V Thick Film Resistor 200ppm/â„ƒ 1% 2512 Chip Resistor - Surface Mount RoHS; Manufacturer: FOJAN; Manufacturer Part Number: FRP2512F2R40TS; Supplier: LCSC; Supplier Part Number: C49196886; Resistance: 2R4; Tolerance: 1%; Voltage Rating: 200V; Power: 2W
footprint RES SMD 2512
pins: 1, 2

## RES 2512 2R4 1%_1
designator C?, comment 2R4
1W 2.49R 200V Thick Film Resistor 200ppm/â„ƒ 1% 2512 Chip Resistor - Surface Mount RoHS; Manufacturer: FOJAN; Manufacturer Part Number: FRC2512F2R49TS; Supplier: LCSC; Supplier Part Number: C5126187; Resistance: 2R4; Tolerance: 1%; Voltage Rating: 200V; Power: 1W
footprint RES SMD 2512
pins: 1, 2

## RES 2512 2R4 1%_2
designator C?, comment 2R4
2.4R 1W 200V Thick Film Resistor 1% 200ppm/â„ƒ 2512 Chip Resistor - Surface Mount RoHS; Manufacturer: FOJAN; Manufacturer Part Number: FRC2512F2R40TS; Supplier: LCSC; Supplier Part Number: C2934066; Resistance: 2R4; Tolerance: 1%; Voltage Rating: 200V; Power: 1W
footprint RES SMD 2512
pins: 1, 2

## RES 2512 2R4 5%
designator C?, comment 2R4
2.4R 1W 200V Thick Film Resistor 5% 200ppm/â„ƒ 2512 Chip Resistor - Surface Mount RoHS; Manufacturer: FOJAN; Manufacturer Part Number: FRC2512J2R4 TS; Supplier: LCSC; Supplier Part Number: C2934106; Resistance: 2R4; Tolerance: 5%; Voltage Rating: 200V; Power: 1W
footprint RES SMD 2512
pins: 1, 2

## RES 2512 2R4 5%_1
designator C?, comment 2R4
2.4MR 1W 200V Thick Film Resistor 5% 2512 Chip Resistor - Surface Mount RoHS; Manufacturer: FOJAN; Manufacturer Part Number: FRC2512J245 TS; Supplier: LCSC; Supplier Part Number: C52033554; Resistance: 2R4; Tolerance: 5%; Voltage Rating: 200V; Power: 1W
footprint RES SMD 2512
pins: 1, 2

## RES 2512 2R5 1%
designator C?, comment 2R5
1W 2.55R 200V Thick Film Resistor 200ppm/â„ƒ 1% 2512 Chip Resistor - Surface Mount RoHS; Manufacturer: FOJAN; Manufacturer Part Number: FRC2512F2R55TS; Supplier: LCSC; Supplier Part Number: C5126188; Resistance: 2R5; Tolerance: 1%; Voltage Rating: 200V; Power: 1W
footprint RES SMD 2512
pins: 1, 2

## RES 2512 2R5 2%
designator C?, comment 2R5
2.5mR 2W Current Sense Resistor 2% 50ppm/â„ƒ 2512 Chip Resistor - Surface Mount RoHS; Manufacturer: FOJAN; Manufacturer Part Number: FRM252WGR0025TN; Supplier: LCSC; Supplier Part Number: C7467253; Resistance: 2R5; Tolerance: 2%; Power: 2W
footprint RES SMD 2512
pins: 1, 2

## RES 2512 2R7 1%
designator C?, comment 2R7
1W 2.7R 200V Thick Film Resistor 200ppm/â„ƒ 1% 2512 Chip Resistor - Surface Mount RoHS; Manufacturer: FOJAN; Manufacturer Part Number: FRC2512F2R70TS; Supplier: LCSC; Supplier Part Number: C2999529; Resistance: 2R7; Tolerance: 1%; Voltage Rating: 200V; Power: 1W
footprint RES SMD 2512
pins: 1, 2

## RES 2512 2R7 5%
designator C?, comment 2R7
2.7R 1W 200V Thick Film Resistor 5% 200ppm/â„ƒ 2512 Chip Resistor - Surface Mount RoHS; Manufacturer: FOJAN; Manufacturer Part Number: FRC2512J2R7 TS; Supplier: LCSC; Supplier Part Number: C2960733; Resistance: 2R7; Tolerance: 5%; Voltage Rating: 200V; Power: 1W
footprint RES SMD 2512
pins: 1, 2

## RES 2512 2R7 5%_1
designator C?, comment 2R7
2.7MR 5% 1W 2512 Thick Film Resistor; Manufacturer: FOJAN; Manufacturer Part Number: FRC2512J275 TS; Voltage Rating: 200V; Supplier: LCSC; Supplier Part Number: C5159763; Resistance: 2R7; Tolerance: 5%; Power: 1W
footprint RES SMD 2512
pins: 1, 2

## RES 2512 2R 1%
designator C?, comment 2R
1W 2R 200V Thick Film Resistor 200ppm/â„ƒ 1% 2512 Chip Resistor - Surface Mount RoHS; Manufacturer: FOJAN; Manufacturer Part Number: FRC2512F2R00TS; Supplier: LCSC; Supplier Part Number: C3013321; Resistance: 2R; Tolerance: 1%; Voltage Rating: 200V; Power: 1W
footprint RES SMD 2512
pins: 1, 2

## RES 2512 2R 5%
designator C?, comment 2R
1W 2R 200V Thick Film Resistor 200ppm/â„ƒ 5% 2512 Chip Resistor - Surface Mount RoHS; Manufacturer: FOJAN; Manufacturer Part Number: FRC2512J2R0TS; Supplier: LCSC; Supplier Part Number: C3000637; Resistance: 2R; Tolerance: 5%; Voltage Rating: 200V; Power: 1W
footprint RES SMD 2512
pins: 1, 2

## RES 2512 3k3 1%
designator C?, comment 3k3
3.3kR 1% 1W 2512 Thick Film Resistor; Manufacturer: FOJAN; Manufacturer Part Number: FRC2512F3301TS; Voltage Rating: 200V; Supplier: LCSC; Supplier Part Number: C42372197; Resistance: 3k3; Tolerance: 1%; Power: 1W
footprint RES SMD 2512
pins: 1, 2

## RES 2512 3k3 5%
designator C?, comment 3k3
3.3kR 5% 1W 2512 Thick Film Resistor; Manufacturer: FOJAN; Manufacturer Part Number: FRC2512J332 TS; Voltage Rating: 200V; Supplier: LCSC; Supplier Part Number: C2907580; Resistance: 3k3; Tolerance: 5%; Power: 1W
footprint RES SMD 2512
pins: 1, 2

## RES 2512 3k6 5%
designator C?, comment 3k6
3.6kR 5% 1W 2512 Thick Film Resistor; Manufacturer: FOJAN; Manufacturer Part Number: FRC2512J362 TS; Voltage Rating: 200V; Supplier: LCSC; Supplier Part Number: C2960815; Resistance: 3k6; Tolerance: 5%; Power: 1W
footprint RES SMD 2512
pins: 1, 2

## RES 2512 3k9 1%
designator C?, comment 3k9
3.9kR 1% 1W 2512 Thick Film Resistor; Manufacturer: FOJAN; Manufacturer Part Number: FRC2512F3901TS; Voltage Rating: 200V; Supplier: LCSC; Supplier Part Number: C2934072; Resistance: 3k9; Tolerance: 1%; Power: 1W
footprint RES SMD 2512
pins: 1, 2

## RES 2512 3k9 1%_1
designator C?, comment 3k9
1W 3.92kR 200V Thick Film Resistor 1% 2512 Chip Resistor - Surface Mount RoHS; Manufacturer: FOJAN; Manufacturer Part Number: FRC2512F3921TS; Supplier: LCSC; Supplier Part Number: C51048341; Resistance: 3k9; Tolerance: 1%; Voltage Rating: 200V; Power: 1W
footprint RES SMD 2512
pins: 1, 2

## RES 2512 3k9 5%
designator C?, comment 3k9
3.9kR 5% 1W 2512 Thick Film Resistor; Manufacturer: FOJAN; Manufacturer Part Number: FRC2512J392 TS; Voltage Rating: 200V; Supplier: LCSC; Supplier Part Number: C2960744; Resistance: 3k9; Tolerance: 5%; Power: 1W
footprint RES SMD 2512
pins: 1, 2

## RES 2512 3k 1%
designator C?, comment 3k
3kR 1% 1W 2512 Thick Film Resistor; Manufacturer: FOJAN; Manufacturer Part Number: FRC2512F3001TS; Voltage Rating: 200V; Supplier: LCSC; Supplier Part Number: C3000675; Resistance: 3k; Tolerance: 1%; Power: 1W
footprint RES SMD 2512
pins: 1, 2

## RES 2512 3k 5%
designator C?, comment 3k
3kR 5% 1W 2512 Thick Film Resistor; Manufacturer: FOJAN; Manufacturer Part Number: FRC2512J302 TS; Voltage Rating: 200V; Supplier: LCSC; Supplier Part Number: C2934109; Resistance: 3k; Tolerance: 5%; Power: 1W
footprint RES SMD 2512
pins: 1, 2

## RES 2512 3mR 1%
designator C?, comment 3mR
3W 3mR Current Sense Resistor 50ppm/â„ƒ 1% 2512 Chip Resistor - Surface Mount RoHS; Manufacturer: FOJAN; Manufacturer Part Number: FPM253WFR003TML; Supplier: LCSC; Supplier Part Number: C7467252; Resistance: 3mR; Tolerance: 1%; Power: 3W
footprint RES SMD 2512
pins: 1, 2

## RES 2512 3MR 5%
designator C?, comment 3MR
3MR 5% 1W 2512 Thick Film Resistor; Manufacturer: FOJAN; Manufacturer Part Number: FRC2512J305TS; Voltage Rating: 200V; Supplier: LCSC; Supplier Part Number: C5154015; Resistance: 3MR; Tolerance: 5%; Power: 1W
footprint RES SMD 2512
pins: 1, 2

## RES 2512 3R3 1%
designator C?, comment 3R3
3.3R 1W 200V Thick Film Resistor 1% 200ppm/â„ƒ 2512 Chip Resistor - Surface Mount RoHS; Manufacturer: FOJAN; Manufacturer Part Number: FRC2512F3R30TS; Supplier: LCSC; Supplier Part Number: C2960811; Resistance: 3R3; Tolerance: 1%; Voltage Rating: 200V; Power: 1W
footprint RES SMD 2512
pins: 1, 2

## RES 2512 3R3 5%
designator C?, comment 3R3
3.3R 1W 200V Thick Film Resistor 5% 200ppm/â„ƒ 2512 Chip Resistor - Surface Mount RoHS; Manufacturer: FOJAN; Manufacturer Part Number: FRC2512J3R3 TS; Supplier: LCSC; Supplier Part Number: C2960677; Resistance: 3R3; Tolerance: 5%; Voltage Rating: 200V; Power: 1W
footprint RES SMD 2512
pins: 1, 2

## RES 2512 3R3 5%_1
designator C?, comment 3R3
3.3MR 5% 1W 2512 Thick Film Resistor; Manufacturer: FOJAN; Manufacturer Part Number: FRC2512J335 TS; Voltage Rating: 200V; Supplier: LCSC; Supplier Part Number: C2934112; Resistance: 3R3; Tolerance: 5%; Power: 1W
footprint RES SMD 2512
pins: 1, 2

## RES 2512 3R5 5%
designator C?, comment 3R5
3.5mR 5% 2W; Manufacturer: FOJAN; Manufacturer Part Number: FRM252WJR0035TN; Supplier: LCSC; Supplier Part Number: C7507090; Resistance: 3R5; Tolerance: 5%; Power: 2W
footprint RES SMD 2512
pins: 1, 2

## RES 2512 3R6 1%
designator C?, comment 3R6
3.6R 1W 200V Thick Film Resistor 1% 200ppm/â„ƒ 2512 Chip Resistor - Surface Mount RoHS; Manufacturer: FOJAN; Manufacturer Part Number: FRC2512F3R60TS; Supplier: LCSC; Supplier Part Number: C2974111; Resistance: 3R6; Tolerance: 1%; Voltage Rating: 200V; Power: 1W
footprint RES SMD 2512
pins: 1, 2

## RES 2512 3R6 1%_1
designator C?, comment 3R6
1W 3.6MR 200V Thick Film Resistor 1% 2512 Chip Resistor - Surface Mount RoHS; Manufacturer: FOJAN; Manufacturer Part Number: FRC2512F3604TS; Supplier: LCSC; Supplier Part Number: C51048318; Resistance: 3R6; Tolerance: 1%; Voltage Rating: 200V; Power: 1W
footprint RES SMD 2512
pins: 1, 2

## RES 2512 3R6 5%
designator C?, comment 3R6
1W 3.6R 200V Thick Film Resistor 200ppm/â„ƒ 5% 2512 Chip Resistor - Surface Mount RoHS; Manufacturer: FOJAN; Manufacturer Part Number: FRC2512J3R6TS; Supplier: LCSC; Supplier Part Number: C3000682; Resistance: 3R6; Tolerance: 5%; Voltage Rating: 200V; Power: 1W
footprint RES SMD 2512
pins: 1, 2

## RES 2512 3R9 1%
designator C?, comment 3R9
1W 3.9R 200V Thick Film Resistor 200ppm/â„ƒ 1% 2512 Chip Resistor - Surface Mount RoHS; Manufacturer: FOJAN; Manufacturer Part Number: FRC2512F3R90TS; Supplier: LCSC; Supplier Part Number: C3000674; Resistance: 3R9; Tolerance: 1%; Voltage Rating: 200V; Power: 1W
footprint RES SMD 2512
pins: 1, 2

## RES 2512 3R9 1%_1
designator C?, comment 3R9
3.9R 2W Thick Film Resistor 200ppm/â„ƒ 1% 2512 Chip Resistor - Surface Mount RoHS; Manufacturer: FOJAN; Manufacturer Part Number: FRP2512F3R90TS; Supplier: LCSC; Supplier Part Number: C7468377; Resistance: 3R9; Tolerance: 1%; Power: 2W
footprint RES SMD 2512
pins: 1, 2

## RES 2512 3R9 5%
designator C?, comment 3R9
1W 3.9R 200V Thick Film Resistor 5% 200ppm/â„ƒ 2512 Chip Resistor - Surface Mount RoHS; Manufacturer: FOJAN; Manufacturer Part Number: FRC2512J3R9 TS; Supplier: LCSC; Supplier Part Number: C2934114; Resistance: 3R9; Tolerance: 5%; Voltage Rating: 200V; Power: 1W
footprint RES SMD 2512
pins: 1, 2

## RES 2512 3R 1%
designator C?, comment 3R
1W 3R 200V Thick Film Resistor 200ppm/â„ƒ 1% 2512 Chip Resistor - Surface Mount RoHS; Manufacturer: FOJAN; Manufacturer Part Number: FRC2512F3R00TS; Supplier: LCSC; Supplier Part Number: C2999603; Resistance: 3R; Tolerance: 1%; Voltage Rating: 200V; Power: 1W
footprint RES SMD 2512
pins: 1, 2

## RES 2512 3R 5%
designator C?, comment 3R
3R 1W 200V Thick Film Resistor 5% 200ppm/â„ƒ 2512 Chip Resistor - Surface Mount RoHS; Manufacturer: FOJAN; Manufacturer Part Number: FRC2512J3R0 TS; Supplier: LCSC; Supplier Part Number: C2960837; Resistance: 3R; Tolerance: 5%; Voltage Rating: 200V; Power: 1W
footprint RES SMD 2512
pins: 1, 2

## RES 2512 4k0 1%
designator C?, comment 4k0
1W 4.02kR 200V Thick Film Resistor 1% 2512 Chip Resistor - Surface Mount RoHS; Manufacturer: FOJAN; Manufacturer Part Number: FRC2512F4021TS; Supplier: LCSC; Supplier Part Number: C51048198; Resistance: 4k0; Tolerance: 1%; Voltage Rating: 200V; Power: 1W
footprint RES SMD 2512
pins: 1, 2